# EAGLE library part SOCKET6 (library wheat)
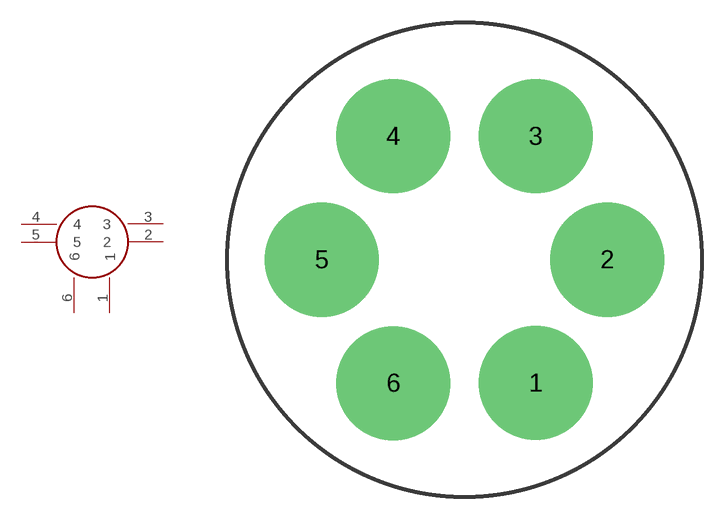
[diagram p286: symbol with the pads of SOCKET6; footprint SOCKET6]

Designator prefix -

## SOCKET6  [SOCKET6]
1  1
2  2
3  3
4  4
5  5
6  6

## Footprint SOCKET6 (pad centres in mm)
drill 5.232 pad 7.62: 1 4.763,-8.245; 2 9.525,0; 3 4.763,8.255; 4 -4.763,8.255; 5 -9.525,0; 6 -4.763,-8.255